# Altium footprint library 2.41-LGA封装.PcbLib: 9 footprints
Each footprint in its own frame and in the unit in brackets; x right, y up, seen from the top. Pads: shape width x height; smd on the part's side, far side on the other; paste and mask are expansions set on the pad; w line width, h text height; cw(c..) or ccw(c..) is an arc to the next point about the centre after c.
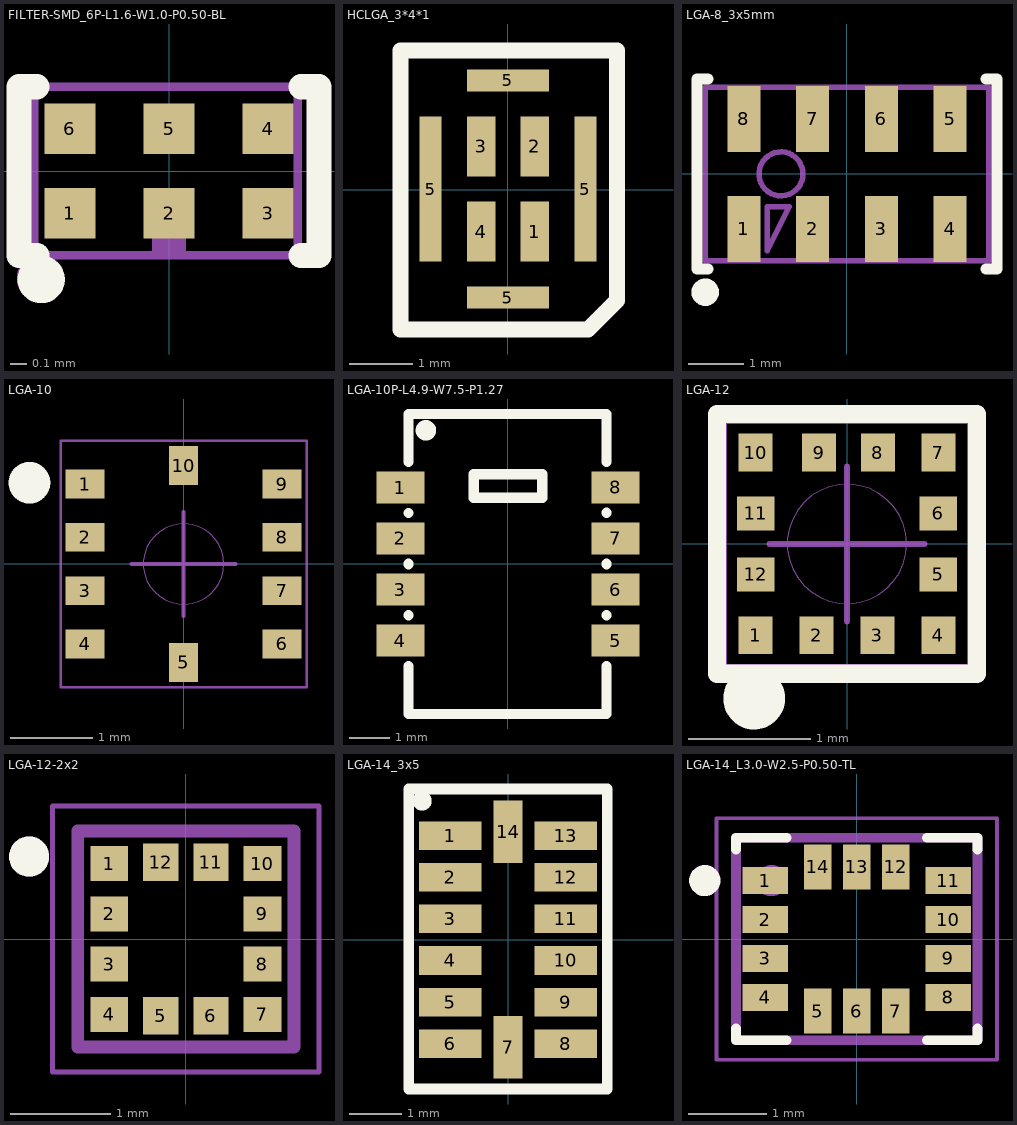
[diagram p0: the footprints below, top view; thin cyan lines are the x and y axes]

## FILTER-SMD_6P-L1.6-W1.0-P0.50-BL [mm]
pads (6):
  rect 0.3x0.3 smd paste+0 mask+0.05: 1(-0.587,-0.25) 2(0,-0.25) 3(0.587,-0.25) 4(0.587,0.25) 5(0,0.25) 6(-0.587,0.25)
Top Overlay:
  circle w0.14: c-0.757,-0.642 r0.07
  lines w0.15: -0.783,-0.5 -0.889,-0.5 -0.889,0.5 -0.783,0.5 ; 0.783,-0.5 0.889,-0.5 0.889,0.5 0.783,0.5
Mechanical 6:
  circle w0.14: c-0.762,-0.635 r0.07
Mechanical 15:
  region: -0.74,-0.5 -0.74,-0.475 -0.775,-0.44 -0.825,-0.44 -0.86,-0.475 -0.86,-0.5 -0.86,-0.525 -0.825,-0.56 -0.775,-0.56 -0.74,-0.525 -0.74,-0.5
  region: 0.487,-0.15 0.687,-0.15 0.687,-0.35 0.487,-0.35
  region: 0.487,0.35 0.687,0.35 0.687,0.15 0.487,0.15
  region: -0.1,0.35 0.1,0.35 0.1,0.15 -0.1,0.15
  region: -0.1,-0.292 0.1,-0.292 0.1,-0.492 -0.1,-0.492
  region: -0.687,-0.15 -0.487,-0.15 -0.487,-0.35 -0.687,-0.35
  region: -0.687,0.35 -0.487,0.35 -0.487,0.15 -0.687,0.15
  lines w0.051: -0.8,-0.5 -0.8,0.5 0.762,0.5 0.762,-0.5 -0.8,-0.5
3D body "tianxian.step": height 0.47, standoff 0.03, extent -0.799,-0.497 0.801,0.503

## HCLGA_3*4*1 [mm] "MP34DT05TR数字麦克风"
pads (8):
  rect 0.45x0.95 smd: 1(0.427,-0.661) 2(0.427,0.689) 3(-0.423,0.689) 4(-0.423,-0.661)
  rect 0.35x2.3 smd: 5(-1.223,0.014) 5(1.227,0.014)
  rect 1.3x0.35 smd: 5(0.002,-1.706) 5(0.002,1.734)
Top Overlay:
  lines w0.254: -1.702,-2.21 1.27,-2.21 1.727,-1.753 1.727,2.21 -1.702,2.21 -1.702,-2.21
3D body "User Library-hclga_4l.STEP": height 1.03, standoff 0.02, extent -1.499,-2 1.501,2

## LGA-8_3x5mm [mm]
pads (8):
  rect 0.6x1.2 smd: 1(-1.875,-1) 2(-0.625,-1) 3(0.625,-1) 4(1.875,-1) 5(1.875,1) 6(0.625,1) 7(-0.625,1) 8(-1.875,1)
Top Overlay:
  circle w0.25: c-2.575,-2.15 r0.125
  lines w0.2: -2.525,-1.725 -2.725,-1.725 -2.725,1.725 -2.525,1.725 ; 2.525,-1.725 2.725,-1.725 2.725,1.725 2.525,1.725
Mechanical 13:
  circle w0.1: c-1.2,0 r0.4
  lines w0.1: -2.575,-1.575 -2.575,1.575 2.575,1.575 2.575,-1.575 -2.575,-1.575 ; -1.45,-1.4 -1.05,-0.6 -1.45,-0.6 -1.45,-1.4

## LGA-10 [mm] "3X3mm"
height 0.9
pads (10):
  rect 0.475x0.35 smd mask+0.07: 1(-1.2,0.975) 2(-1.2,0.325) 3(-1.2,-0.325) 4(-1.2,-0.975) 6(1.2,-0.975) 7(1.2,-0.325) 8(1.2,0.325) 9(1.2,0.975)
  rect 0.35x0.475 smd mask+0.07: 5(0,-1.2) 10(0,1.2)
Top Overlay:
  circle w0.254: c-1.88,0.991 r0.127
Top Solder:
  region: -1.524,1.27 -1.524,1.524 -1.27,1.524 -1.27,1.651 -1.651,1.651 -1.651,1.27
  region: 1.27,1.524 1.524,1.524 1.524,1.27 1.651,1.27 1.651,1.651 1.27,1.651
  region: 1.524,-1.27 1.524,-1.524 1.27,-1.524 1.27,-1.651 1.651,-1.651 1.651,-1.27
  region: -1.27,-1.524 -1.524,-1.524 -1.524,-1.27 -1.651,-1.27 -1.651,-1.651 -1.27,-1.651
Mechanical 14:
  circle w0.01: c0,0 r0.491
  lines w0.05: -0.635,0 0.635,0 ; 0,-0.635 0,0.635
Mechanical 15:
  lines w0.03: -1.5,-1.5 -1.5,1.5 1.5,1.5 1.5,-1.5 -1.5,-1.5
3D body "kxtj9.stp": height 0.91, standoff 0, extent -1.5,-1.5 1.5,1.5

## LGA-10P-L4.9-W7.5-P1.27 [mil]
pads (8):
  rect 47.2x31.5 smd: 1(-105.47,74.97) 2(-105.5,25) 3(-105.5,-25) 4(-105.5,-75) 5(105.5,-75) 6(105.5,-25) 7(105.5,25) 8(105.5,75)
Top Overlay:
  circle w10: c-80.5,131 r5
  lines w10: -97.5,-99.85 -97.5,-147 96.59,-147 96.59,-99.85 ; -97.5,-50.15 -97.5,-49.85 ; -97.5,-0.15 -97.5,0.15 ; -97.5,49.85 -97.5,50.12 ; -97.5,99.82 -97.5,147 96.59,147 96.59,99.85 ; 96.59,-50.15 96.59,-49.85 ; 96.59,-0.15 96.59,0.15 ; 96.59,49.85 96.59,50.15 ; -33.5,65 -33.5,88 33.5,88 33.5,65 -33.5,65
3D body: height 20, standoff 1, extent -95,-145 95,145

## LGA-12 [mm] "2X2mm"
height 0.8
pads (12):
  rect 0.28x0.31 smd mask+0.07: 1(-0.75,-0.75) 2(-0.25,-0.75) 3(0.25,-0.75) 4(0.75,-0.75) 7(0.75,0.75) 8(0.254,0.75) 9(-0.229,0.75) 10(-0.75,0.75)
  rect 0.31x0.28 smd mask+0.07: 5(0.75,-0.25) 6(0.75,0.25) 11(-0.75,0.25) 12(-0.75,-0.25)
Top Overlay:
  circle w0.254: c-0.762,-1.27 r0.127
  lines w0.15: -1.067,-1.067 1.067,-1.067 1.067,1.067 -1.067,1.067 -1.067,-1.067
Mechanical 14:
  circle w0.01: c0,0 r0.491
  lines w0.05: -0.635,0 0.635,0 ; 0,-0.635 0,0.635
Mechanical 15:
  lines w0.03: -1,-1 1,-1 1,1 -1,1 -1,-1
3D body "qfn-12.stp": height 0.96, standoff 0, extent -1,-1 1,1

## LGA-12-2x2 [mm]
pads (12):
  rect 0.375x0.35 smd mask+0: 1(-0.763,0.75) 2(-0.763,0.25) 3(-0.763,-0.25) 4(-0.763,-0.75) 7(0.763,-0.75) 8(0.763,-0.25) 9(0.763,0.25) 10(0.763,0.75)
  rect 0.35x0.375 smd mask+0: 5(-0.25,-0.763) 6(0.25,-0.763) 11(0.25,0.763) 12(-0.25,0.763)
Top Overlay:
  circle w0.2: c-1.56,0.82 r0.1
Top Solder:
  region: 0.475,-1 0.025,-1 0.025,-0.525 0.475,-0.525
  region: 0.475,0.525 0.025,0.525 0.025,1 0.475,1
  region: -0.025,0.525 -0.475,0.525 -0.475,1 -0.025,1
  region: -0.025,-1 -0.475,-1 -0.475,-0.525 -0.025,-0.525
  region: 1,-0.975 0.525,-0.975 0.525,-0.525 1,-0.525
  region: 1,-0.475 0.525,-0.475 0.525,-0.025 1,-0.025
  region: 1,0.025 0.525,0.025 0.525,0.475 1,0.475
  region: -0.525,-0.975 -1,-0.975 -1,-0.525 -0.525,-0.525
  region: -0.525,-0.475 -1,-0.475 -1,-0.025 -0.525,-0.025
  region: -0.525,0.025 -1,0.025 -1,0.475 -0.525,0.475
  region: -0.525,0.525 -1,0.525 -1,0.975 -0.525,0.975
  region: 1,0.525 0.525,0.525 0.525,0.975 1,0.975
Mechanical 13:
  circle w0.2: c-1.56,0.82 r0.1
  lines w0.127: -1.075,-1.075 1.075,-1.075 1.075,1.075 -1.075,1.075 -1.075,-1.075
Mechanical 15:
  lines w0.05: -1.325,-1.325 1.325,-1.325 1.325,1.325 -1.325,1.325 -1.325,-1.325
3D body "LIS3MDLTR--3DModel-STEP-56544.STEP": height 1, standoff 0, extent -1,-1 1,1

## LGA-14_3x5 [mm]
pads (14):
  rect 1.2x0.55 smd: 1(-1.11,2) 2(-1.11,1.2) 3(-1.11,0.4) 4(-1.11,-0.4) 5(-1.11,-1.2) 6(-1.11,-2) 8(1.11,-2) 9(1.11,-1.2) 10(1.11,-0.4) 11(1.11,0.4) 12(1.11,1.2) 13(1.11,2)
  rect 0.55x1.2 smd: 7(0,-2.07) 14(0,2.07)
Top Overlay:
  circle w0.254: c-1.651,2.667 r0.057
  lines w0.203: -1.905,-2.87 1.905,-2.87 1.905,2.896 -1.041,2.896 -1.905,2.896 -1.905,-2.87
3D body "ADXL345Z.STEP": height 0.93, standoff -0.03, extent -1.5,-2.5 1.5,2.5

## LGA-14_L3.0-W2.5-P0.50-TL [mm]
pads (14):
  rect 0.58x0.35 smd: 1(-1.175,0.75) 2(-1.175,0.25) 3(-1.175,-0.25) 4(-1.175,-0.75) 8(1.175,-0.75) 9(1.175,-0.25) 10(1.175,0.25) 11(1.175,0.75)
  rect 0.35x0.58 smd: 5(-0.5,-0.925) 6(0,-0.925) 7(0.5,-0.925) 12(0.5,0.925) 13(0,0.925) 14(-0.5,0.925)
Top Overlay:
  circle w0.2: c-1.95,0.75 r0.1
  lines w0.127: -1.55,-1.15 -1.55,-1.3 -0.9,-1.3 ; -1.55,1.15 -1.55,1.3 -0.9,1.3 ; 0.9,-1.3 1.55,-1.3 1.55,-1.15 ; 0.9,1.3 1.55,1.3 1.55,1.15
Mechanical 13:
  circle w0.2: c-1.095,0.75 r0.1
  lines w0.127: -1.55,-1.3 -1.55,1.3 1.55,1.3 1.55,-1.3 -1.55,-1.3
Mechanical 15:
  lines w0.05: -1.8,-1.55 -1.8,1.55 1.8,1.55 1.8,-1.55 -1.8,-1.55
3D body "step_temp.STEP": height 0.86, standoff 0, extent -1.5,-1.25 1.5,1.25